# Altium footprint library Tranzistor.PcbLib: 241 footprints (part 10 of 16)
Each footprint in its own frame and in the unit in brackets; x right, y up, seen from the top. Pads: shape width x height; smd on the part's side, far side on the other; paste and mask are expansions set on the pad; w line width, h text height; cw(c..) or ccw(c..) is an arc to the next point about the centre after c.
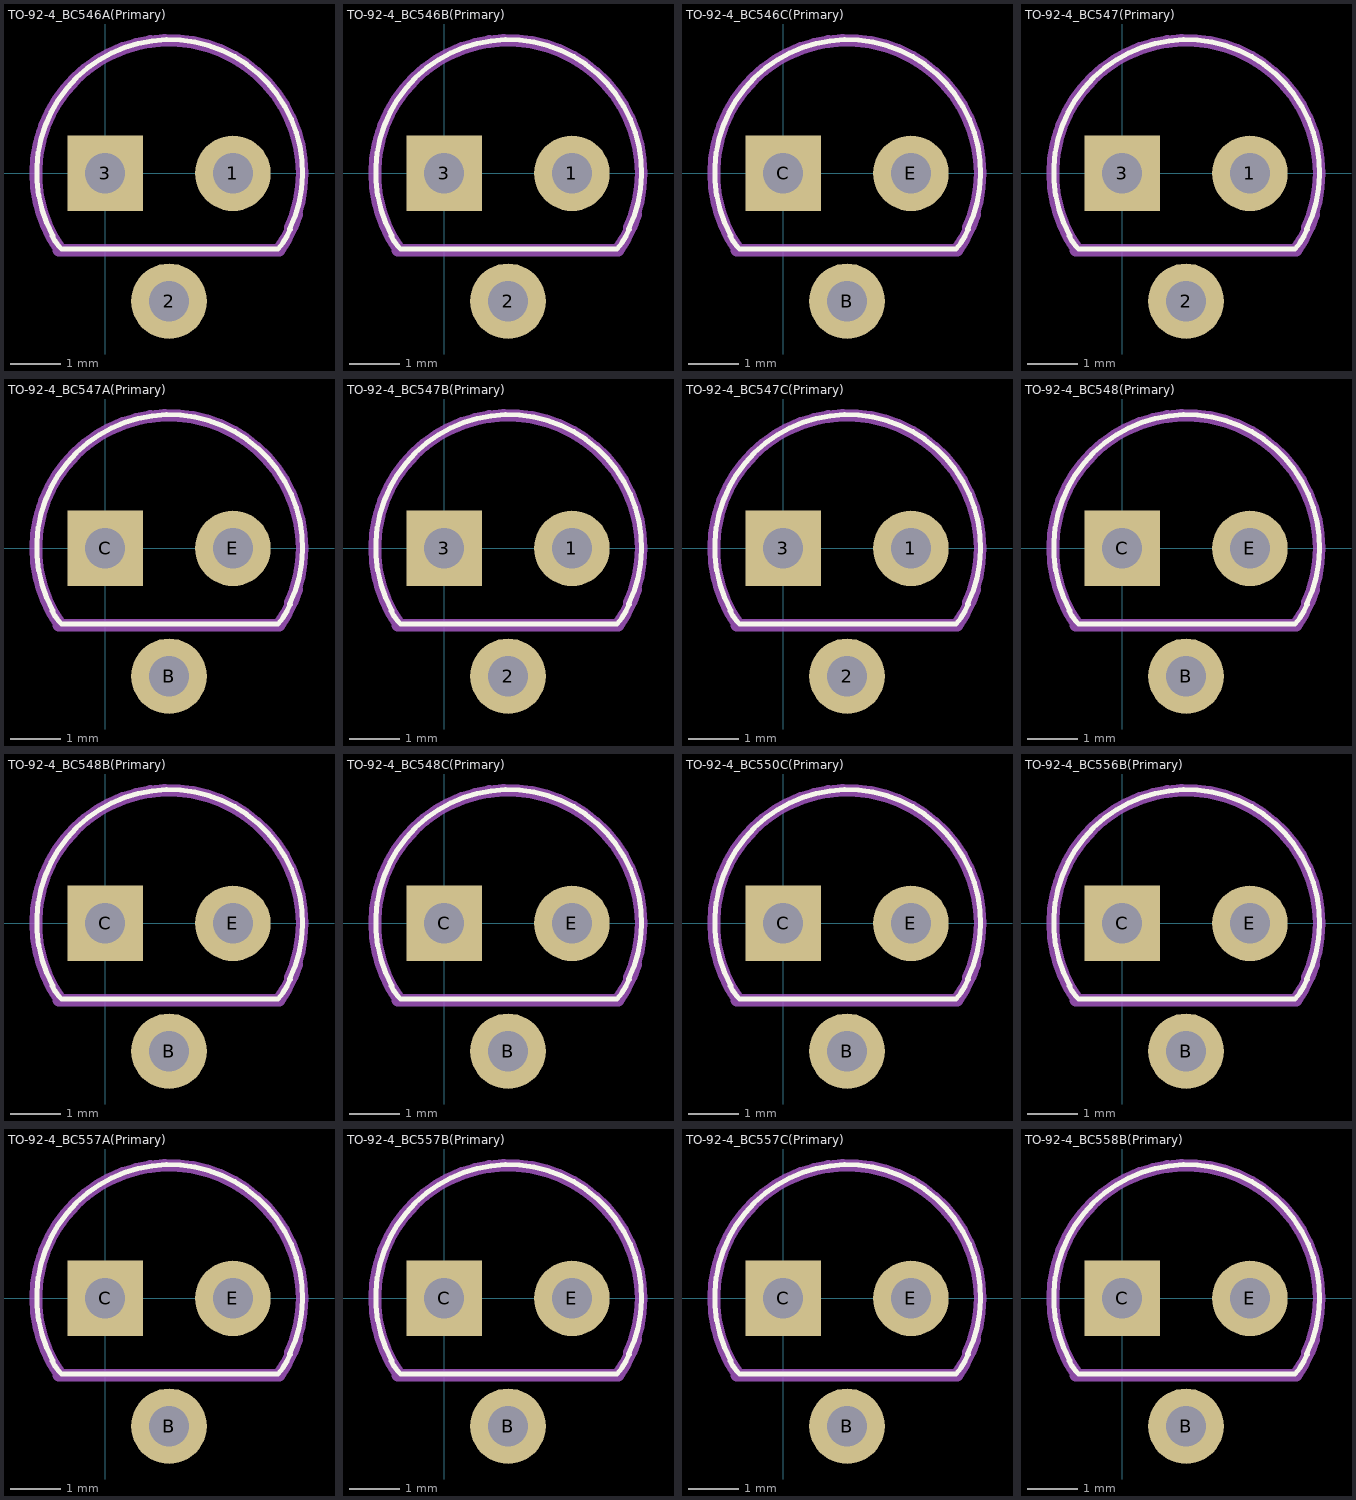
[diagram p9: the footprints below, top view; thin cyan lines are the x and y axes]

## TO-92-4_BC546A(Primary) [mm]
pads (3):
  round 1.5 hole 0.8: 1(2.54,0) 2(1.27,-2.54)
  rect 1.5x1.5 hole 0.8: 3(0,0)
Top Overlay:
  lines w0.1: -1.051,-1.245 ccw(c-0.235,-0.843) -0.86,-1.504 ; -1.039,-1.237 cw(c1.282,0.017) 3.66,-1.123 ; -0.856,-1.503 0.084,-1.503 ; 0.086,-1.504 3.419,-1.503 ; 3.434,-1.505 ccw(c2.324,-0.536) 3.679,-1.114
Mechanical 1:
  lines w0.025: 1.245,2.667 1.27,2.667
  lines w0.25: -1.243,0.816 ccw(c1.168,0) -1.243,-0.816 ccw(c1.27,0) -0.895,-1.516 ; -1.055,-1.257 cw(c1.27,0) 3.675,-1.096 ; -0.914,-1.524 3.454,-1.524 ccw(c1.27,0) 3.805,-0.819 ; 3.785,-0.812 ccw(c1.27,0) 3.785,0.812
  text "E" at 2.29,0.79 h0.31
  text "C" at -0.71,0.79 h0.31
  text "BASE" at 0.75,-1.25 h0.31

## TO-92-4_BC546B(Primary) [mm]
pads (3):
  round 1.5 hole 0.8: 1(2.54,0) 2(1.27,-2.54)
  rect 1.5x1.5 hole 0.8: 3(0,0)
Top Overlay:
  lines w0.1: -1.051,-1.245 ccw(c-0.235,-0.843) -0.86,-1.504 ; -1.039,-1.237 cw(c1.282,0.017) 3.66,-1.123 ; -0.856,-1.503 0.084,-1.503 ; 0.086,-1.504 3.419,-1.503 ; 3.434,-1.505 ccw(c2.324,-0.536) 3.679,-1.114
Mechanical 1:
  lines w0.025: 1.245,2.667 1.27,2.667
  lines w0.25: -1.243,0.816 ccw(c1.168,0) -1.243,-0.816 ccw(c1.27,0) -0.895,-1.516 ; -1.055,-1.257 cw(c1.27,0) 3.675,-1.096 ; -0.914,-1.524 3.454,-1.524 ccw(c1.27,0) 3.805,-0.819 ; 3.785,-0.812 ccw(c1.27,0) 3.785,0.812
  text "E" at 2.29,0.79 h0.31
  text "C" at -0.71,0.79 h0.31
  text "BASE" at 0.75,-1.25 h0.31

## TO-92-4_BC546C(Primary) [mm]
pads (3):
  round 1.5 hole 0.8: B(1.27,-2.54) E(2.54,0)
  rect 1.5x1.5 hole 0.8: C(0,0)
Top Overlay:
  lines w0.1: -1.051,-1.245 ccw(c-0.235,-0.843) -0.86,-1.504 ; -1.039,-1.237 cw(c1.282,0.017) 3.66,-1.123 ; -0.856,-1.503 0.084,-1.503 ; 0.086,-1.504 3.419,-1.503 ; 3.434,-1.505 ccw(c2.324,-0.536) 3.679,-1.114
Mechanical 1:
  lines w0.025: 1.245,2.667 1.27,2.667
  lines w0.25: -1.243,0.816 ccw(c1.168,0) -1.243,-0.816 ccw(c1.27,0) -0.895,-1.516 ; -1.055,-1.257 cw(c1.27,0) 3.675,-1.096 ; -0.914,-1.524 3.454,-1.524 ccw(c1.27,0) 3.805,-0.819 ; 3.785,-0.812 ccw(c1.27,0) 3.785,0.812
  text "E" at 2.29,0.79 h0.31
  text "C" at -0.71,0.79 h0.31
  text "BASE" at 0.75,-1.25 h0.31

## TO-92-4_BC547(Primary) [mm]
pads (3):
  round 1.5 hole 0.8: 1(2.54,0) 2(1.27,-2.54)
  rect 1.5x1.5 hole 0.8: 3(0,0)
Top Overlay:
  lines w0.1: -1.051,-1.245 ccw(c-0.235,-0.843) -0.86,-1.504 ; -1.039,-1.237 cw(c1.282,0.017) 3.66,-1.123 ; -0.856,-1.503 0.084,-1.503 ; 0.086,-1.504 3.419,-1.503 ; 3.434,-1.505 ccw(c2.324,-0.536) 3.679,-1.114
Mechanical 1:
  lines w0.025: 1.245,2.667 1.27,2.667
  lines w0.25: -1.243,0.816 ccw(c1.168,0) -1.243,-0.816 ccw(c1.27,0) -0.895,-1.516 ; -1.055,-1.257 cw(c1.27,0) 3.675,-1.096 ; -0.914,-1.524 3.454,-1.524 ccw(c1.27,0) 3.805,-0.819 ; 3.785,-0.812 ccw(c1.27,0) 3.785,0.812
  text "E" at 2.29,0.79 h0.31
  text "C" at -0.71,0.79 h0.31
  text "BASE" at 0.75,-1.25 h0.31

## TO-92-4_BC547A(Primary) [mm]
pads (3):
  round 1.5 hole 0.8: B(1.27,-2.54) E(2.54,0)
  rect 1.5x1.5 hole 0.8: C(0,0)
Top Overlay:
  lines w0.1: -1.051,-1.245 ccw(c-0.235,-0.843) -0.86,-1.504 ; -1.039,-1.237 cw(c1.282,0.017) 3.66,-1.123 ; -0.856,-1.503 0.084,-1.503 ; 0.086,-1.504 3.419,-1.503 ; 3.434,-1.505 ccw(c2.324,-0.536) 3.679,-1.114
Mechanical 1:
  lines w0.025: 1.245,2.667 1.27,2.667
  lines w0.25: -1.243,0.816 ccw(c1.168,0) -1.243,-0.816 ccw(c1.27,0) -0.895,-1.516 ; -1.055,-1.257 cw(c1.27,0) 3.675,-1.096 ; -0.914,-1.524 3.454,-1.524 ccw(c1.27,0) 3.805,-0.819 ; 3.785,-0.812 ccw(c1.27,0) 3.785,0.812
  text "E" at 2.29,0.79 h0.31
  text "C" at -0.71,0.79 h0.31
  text "BASE" at 0.75,-1.25 h0.31

## TO-92-4_BC547B(Primary) [mm]
pads (3):
  round 1.5 hole 0.8: 1(2.54,0) 2(1.27,-2.54)
  rect 1.5x1.5 hole 0.8: 3(0,0)
Top Overlay:
  lines w0.1: -1.051,-1.245 ccw(c-0.235,-0.843) -0.86,-1.504 ; -1.039,-1.237 cw(c1.282,0.017) 3.66,-1.123 ; -0.856,-1.503 0.084,-1.503 ; 0.086,-1.504 3.419,-1.503 ; 3.434,-1.505 ccw(c2.324,-0.536) 3.679,-1.114
Mechanical 1:
  lines w0.025: 1.245,2.667 1.27,2.667
  lines w0.25: -1.243,0.816 ccw(c1.168,0) -1.243,-0.816 ccw(c1.27,0) -0.895,-1.516 ; -1.055,-1.257 cw(c1.27,0) 3.675,-1.096 ; -0.914,-1.524 3.454,-1.524 ccw(c1.27,0) 3.805,-0.819 ; 3.785,-0.812 ccw(c1.27,0) 3.785,0.812
  text "E" at 2.29,0.79 h0.31
  text "C" at -0.71,0.79 h0.31
  text "BASE" at 0.75,-1.25 h0.31

## TO-92-4_BC547C(Primary) [mm]
pads (3):
  round 1.5 hole 0.8: 1(2.54,0) 2(1.27,-2.54)
  rect 1.5x1.5 hole 0.8: 3(0,0)
Top Overlay:
  lines w0.1: -1.051,-1.245 ccw(c-0.235,-0.843) -0.86,-1.504 ; -1.039,-1.237 cw(c1.282,0.017) 3.66,-1.123 ; -0.856,-1.503 0.084,-1.503 ; 0.086,-1.504 3.419,-1.503 ; 3.434,-1.505 ccw(c2.324,-0.536) 3.679,-1.114
Mechanical 1:
  lines w0.025: 1.245,2.667 1.27,2.667
  lines w0.25: -1.243,0.816 ccw(c1.168,0) -1.243,-0.816 ccw(c1.27,0) -0.895,-1.516 ; -1.055,-1.257 cw(c1.27,0) 3.675,-1.096 ; -0.914,-1.524 3.454,-1.524 ccw(c1.27,0) 3.805,-0.819 ; 3.785,-0.812 ccw(c1.27,0) 3.785,0.812
  text "E" at 2.29,0.79 h0.31
  text "C" at -0.71,0.79 h0.31
  text "BASE" at 0.75,-1.25 h0.31

## TO-92-4_BC548(Primary) [mm]
pads (3):
  round 1.5 hole 0.8: B(1.27,-2.54) E(2.54,0)
  rect 1.5x1.5 hole 0.8: C(0,0)
Top Overlay:
  lines w0.1: -1.051,-1.245 ccw(c-0.235,-0.843) -0.86,-1.504 ; -1.039,-1.237 cw(c1.282,0.017) 3.66,-1.123 ; -0.856,-1.503 0.084,-1.503 ; 0.086,-1.504 3.419,-1.503 ; 3.434,-1.505 ccw(c2.324,-0.536) 3.679,-1.114
Mechanical 1:
  lines w0.025: 1.245,2.667 1.27,2.667
  lines w0.25: -1.243,0.816 ccw(c1.168,0) -1.243,-0.816 ccw(c1.27,0) -0.895,-1.516 ; -1.055,-1.257 cw(c1.27,0) 3.675,-1.096 ; -0.914,-1.524 3.454,-1.524 ccw(c1.27,0) 3.805,-0.819 ; 3.785,-0.812 ccw(c1.27,0) 3.785,0.812
  text "E" at 2.29,0.79 h0.31
  text "C" at -0.71,0.79 h0.31
  text "BASE" at 0.75,-1.25 h0.31

## TO-92-4_BC548B(Primary) [mm]
pads (3):
  round 1.5 hole 0.8: B(1.27,-2.54) E(2.54,0)
  rect 1.5x1.5 hole 0.8: C(0,0)
Top Overlay:
  lines w0.1: -1.051,-1.245 ccw(c-0.235,-0.843) -0.86,-1.504 ; -1.039,-1.237 cw(c1.282,0.017) 3.66,-1.123 ; -0.856,-1.503 0.084,-1.503 ; 0.086,-1.504 3.419,-1.503 ; 3.434,-1.505 ccw(c2.324,-0.536) 3.679,-1.114
Mechanical 1:
  lines w0.025: 1.245,2.667 1.27,2.667
  lines w0.25: -1.243,0.816 ccw(c1.168,0) -1.243,-0.816 ccw(c1.27,0) -0.895,-1.516 ; -1.055,-1.257 cw(c1.27,0) 3.675,-1.096 ; -0.914,-1.524 3.454,-1.524 ccw(c1.27,0) 3.805,-0.819 ; 3.785,-0.812 ccw(c1.27,0) 3.785,0.812
  text "E" at 2.29,0.79 h0.31
  text "C" at -0.71,0.79 h0.31
  text "BASE" at 0.75,-1.25 h0.31

## TO-92-4_BC548C(Primary) [mm]
pads (3):
  round 1.5 hole 0.8: B(1.27,-2.54) E(2.54,0)
  rect 1.5x1.5 hole 0.8: C(0,0)
Top Overlay:
  lines w0.1: -1.051,-1.245 ccw(c-0.235,-0.843) -0.86,-1.504 ; -1.039,-1.237 cw(c1.282,0.017) 3.66,-1.123 ; -0.856,-1.503 0.084,-1.503 ; 0.086,-1.504 3.419,-1.503 ; 3.434,-1.505 ccw(c2.324,-0.536) 3.679,-1.114
Mechanical 1:
  lines w0.025: 1.245,2.667 1.27,2.667
  lines w0.25: -1.243,0.816 ccw(c1.168,0) -1.243,-0.816 ccw(c1.27,0) -0.895,-1.516 ; -1.055,-1.257 cw(c1.27,0) 3.675,-1.096 ; -0.914,-1.524 3.454,-1.524 ccw(c1.27,0) 3.805,-0.819 ; 3.785,-0.812 ccw(c1.27,0) 3.785,0.812
  text "E" at 2.29,0.79 h0.31
  text "C" at -0.71,0.79 h0.31
  text "BASE" at 0.75,-1.25 h0.31

## TO-92-4_BC550C(Primary) [mm]
pads (3):
  round 1.5 hole 0.8: B(1.27,-2.54) E(2.54,0)
  rect 1.5x1.5 hole 0.8: C(0,0)
Top Overlay:
  lines w0.1: -1.051,-1.245 ccw(c-0.235,-0.843) -0.86,-1.504 ; -1.039,-1.237 cw(c1.282,0.017) 3.66,-1.123 ; -0.856,-1.503 0.084,-1.503 ; 0.086,-1.504 3.419,-1.503 ; 3.434,-1.505 ccw(c2.324,-0.536) 3.679,-1.114
Mechanical 1:
  lines w0.025: 1.245,2.667 1.27,2.667
  lines w0.25: -1.243,0.816 ccw(c1.168,0) -1.243,-0.816 ccw(c1.27,0) -0.895,-1.516 ; -1.055,-1.257 cw(c1.27,0) 3.675,-1.096 ; -0.914,-1.524 3.454,-1.524 ccw(c1.27,0) 3.805,-0.819 ; 3.785,-0.812 ccw(c1.27,0) 3.785,0.812
  text "E" at 2.29,0.79 h0.31
  text "C" at -0.71,0.79 h0.31
  text "BASE" at 0.75,-1.25 h0.31

## TO-92-4_BC556B(Primary) [mm]
pads (3):
  round 1.5 hole 0.8: B(1.27,-2.54) E(2.54,0)
  rect 1.5x1.5 hole 0.8: C(0,0)
Top Overlay:
  lines w0.1: -1.051,-1.245 ccw(c-0.235,-0.843) -0.86,-1.504 ; -1.039,-1.237 cw(c1.282,0.017) 3.66,-1.123 ; -0.856,-1.503 0.084,-1.503 ; 0.086,-1.504 3.419,-1.503 ; 3.434,-1.505 ccw(c2.324,-0.536) 3.679,-1.114
Mechanical 1:
  lines w0.025: 1.245,2.667 1.27,2.667
  lines w0.25: -1.243,0.816 ccw(c1.168,0) -1.243,-0.816 ccw(c1.27,0) -0.895,-1.516 ; -1.055,-1.257 cw(c1.27,0) 3.675,-1.096 ; -0.914,-1.524 3.454,-1.524 ccw(c1.27,0) 3.805,-0.819 ; 3.785,-0.812 ccw(c1.27,0) 3.785,0.812
  text "E" at 2.29,0.79 h0.31
  text "C" at -0.71,0.79 h0.31
  text "BASE" at 0.75,-1.25 h0.31

## TO-92-4_BC557A(Primary) [mm]
pads (3):
  round 1.5 hole 0.8: B(1.27,-2.54) E(2.54,0)
  rect 1.5x1.5 hole 0.8: C(0,0)
Top Overlay:
  lines w0.1: -1.051,-1.245 ccw(c-0.235,-0.843) -0.86,-1.504 ; -1.039,-1.237 cw(c1.282,0.017) 3.66,-1.123 ; -0.856,-1.503 0.084,-1.503 ; 0.086,-1.504 3.419,-1.503 ; 3.434,-1.505 ccw(c2.324,-0.536) 3.679,-1.114
Mechanical 1:
  lines w0.025: 1.245,2.667 1.27,2.667
  lines w0.25: -1.243,0.816 ccw(c1.168,0) -1.243,-0.816 ccw(c1.27,0) -0.895,-1.516 ; -1.055,-1.257 cw(c1.27,0) 3.675,-1.096 ; -0.914,-1.524 3.454,-1.524 ccw(c1.27,0) 3.805,-0.819 ; 3.785,-0.812 ccw(c1.27,0) 3.785,0.812
  text "E" at 2.29,0.79 h0.31
  text "C" at -0.71,0.79 h0.31
  text "BASE" at 0.75,-1.25 h0.31

## TO-92-4_BC557B(Primary) [mm]
pads (3):
  round 1.5 hole 0.8: B(1.27,-2.54) E(2.54,0)
  rect 1.5x1.5 hole 0.8: C(0,0)
Top Overlay:
  lines w0.1: -1.051,-1.245 ccw(c-0.235,-0.843) -0.86,-1.504 ; -1.039,-1.237 cw(c1.282,0.017) 3.66,-1.123 ; -0.856,-1.503 0.084,-1.503 ; 0.086,-1.504 3.419,-1.503 ; 3.434,-1.505 ccw(c2.324,-0.536) 3.679,-1.114
Mechanical 1:
  lines w0.025: 1.245,2.667 1.27,2.667
  lines w0.25: -1.243,0.816 ccw(c1.168,0) -1.243,-0.816 ccw(c1.27,0) -0.895,-1.516 ; -1.055,-1.257 cw(c1.27,0) 3.675,-1.096 ; -0.914,-1.524 3.454,-1.524 ccw(c1.27,0) 3.805,-0.819 ; 3.785,-0.812 ccw(c1.27,0) 3.785,0.812
  text "E" at 2.29,0.79 h0.31
  text "C" at -0.71,0.79 h0.31
  text "BASE" at 0.75,-1.25 h0.31

## TO-92-4_BC557C(Primary) [mm]
pads (3):
  round 1.5 hole 0.8: B(1.27,-2.54) E(2.54,0)
  rect 1.5x1.5 hole 0.8: C(0,0)
Top Overlay:
  lines w0.1: -1.051,-1.245 ccw(c-0.235,-0.843) -0.86,-1.504 ; -1.039,-1.237 cw(c1.282,0.017) 3.66,-1.123 ; -0.856,-1.503 0.084,-1.503 ; 0.086,-1.504 3.419,-1.503 ; 3.434,-1.505 ccw(c2.324,-0.536) 3.679,-1.114
Mechanical 1:
  lines w0.025: 1.245,2.667 1.27,2.667
  lines w0.25: -1.243,0.816 ccw(c1.168,0) -1.243,-0.816 ccw(c1.27,0) -0.895,-1.516 ; -1.055,-1.257 cw(c1.27,0) 3.675,-1.096 ; -0.914,-1.524 3.454,-1.524 ccw(c1.27,0) 3.805,-0.819 ; 3.785,-0.812 ccw(c1.27,0) 3.785,0.812
  text "E" at 2.29,0.79 h0.31
  text "C" at -0.71,0.79 h0.31
  text "BASE" at 0.75,-1.25 h0.31

## TO-92-4_BC558B(Primary) [mm]
pads (3):
  round 1.5 hole 0.8: B(1.27,-2.54) E(2.54,0)
  rect 1.5x1.5 hole 0.8: C(0,0)
Top Overlay:
  lines w0.1: -1.051,-1.245 ccw(c-0.235,-0.843) -0.86,-1.504 ; -1.039,-1.237 cw(c1.282,0.017) 3.66,-1.123 ; -0.856,-1.503 0.084,-1.503 ; 0.086,-1.504 3.419,-1.503 ; 3.434,-1.505 ccw(c2.324,-0.536) 3.679,-1.114
Mechanical 1:
  lines w0.025: 1.245,2.667 1.27,2.667
  lines w0.25: -1.243,0.816 ccw(c1.168,0) -1.243,-0.816 ccw(c1.27,0) -0.895,-1.516 ; -1.055,-1.257 cw(c1.27,0) 3.675,-1.096 ; -0.914,-1.524 3.454,-1.524 ccw(c1.27,0) 3.805,-0.819 ; 3.785,-0.812 ccw(c1.27,0) 3.785,0.812
  text "E" at 2.29,0.79 h0.31
  text "C" at -0.71,0.79 h0.31
  text "BASE" at 0.75,-1.25 h0.31